# Altium integrated library Analog Devices Data Converters Analog-to-Digital Converters.IntLib: 2404 symbols (part 339 of 346)
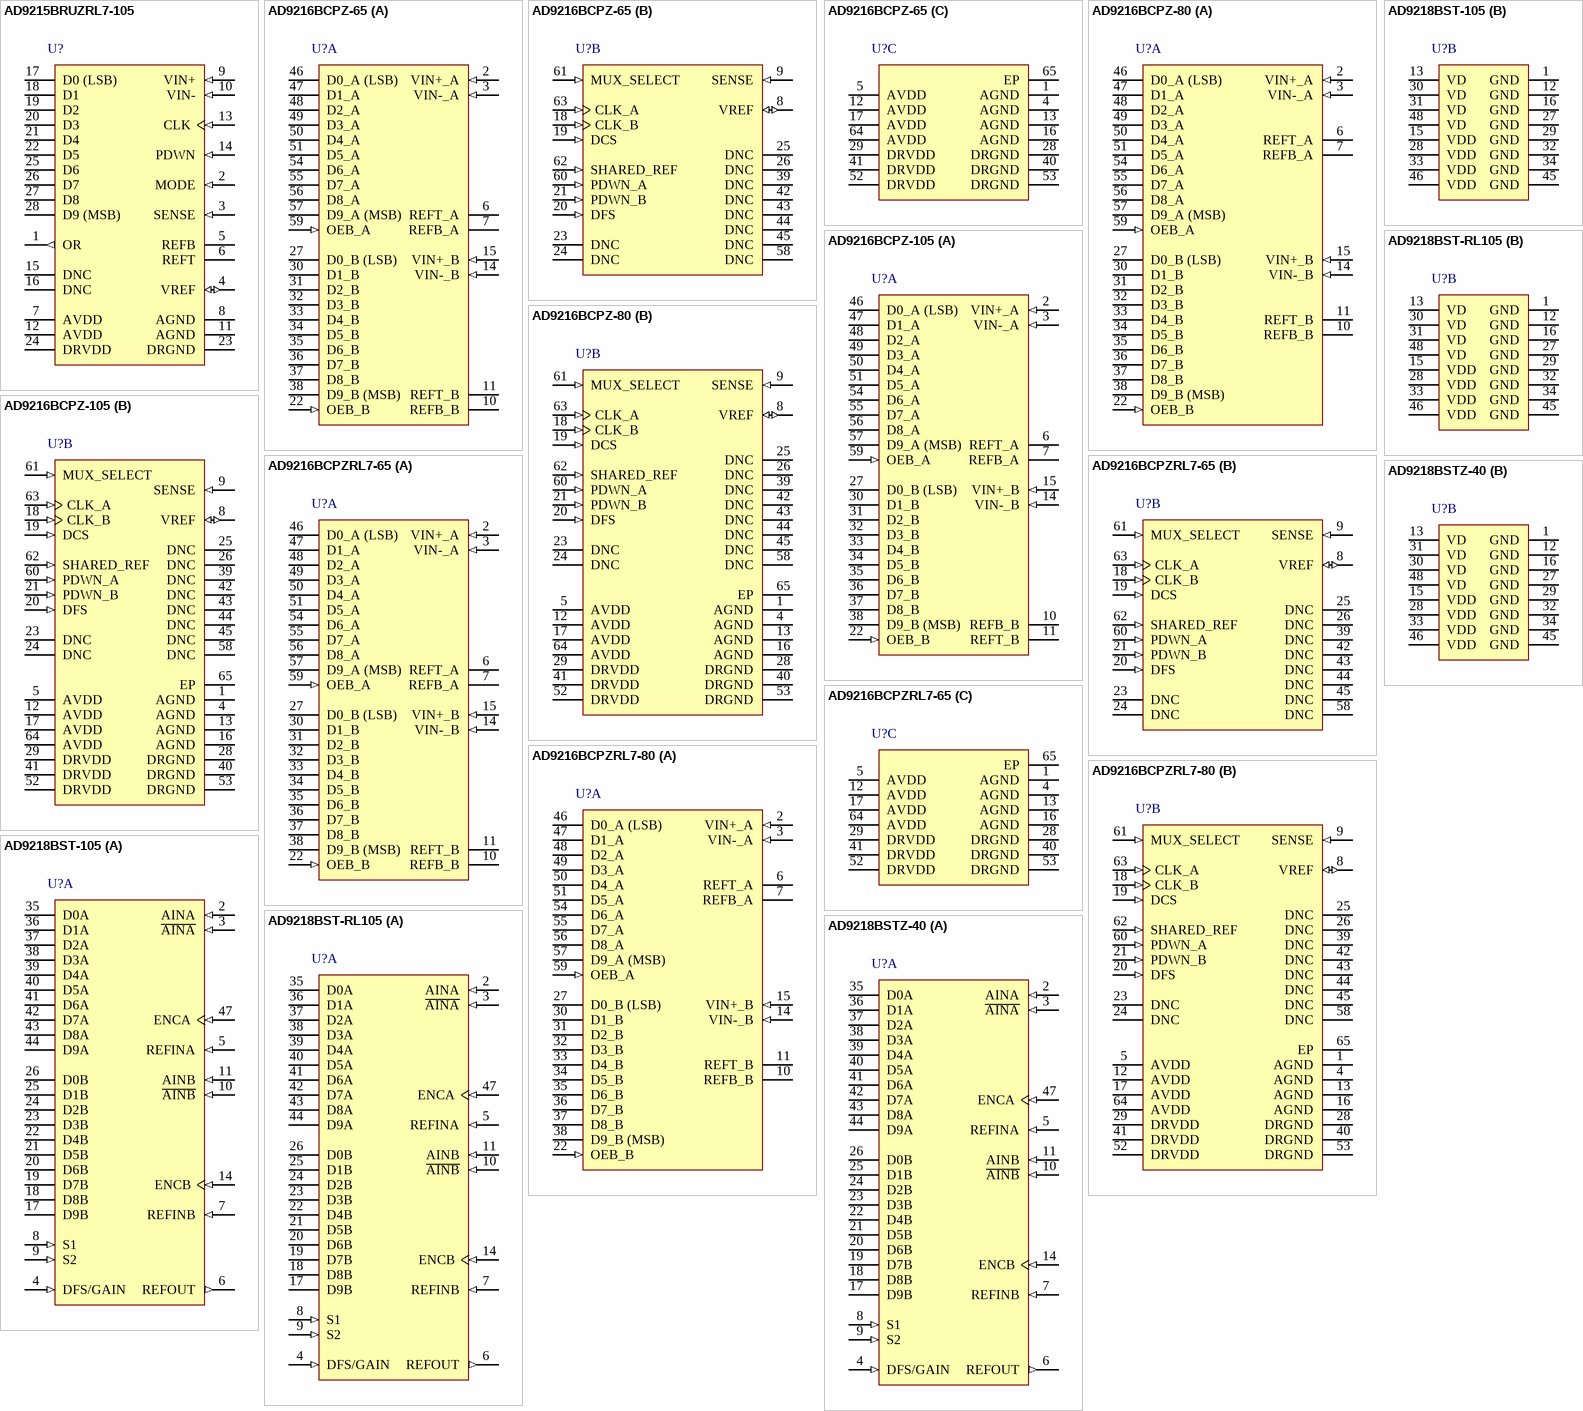
[diagram p336: symbols AD9215BRUZRL7-105 to AD9218BSTZ-40]

## AD9218BSTZ-40
designator U?
Dual 10-Bit Analog-to-Digital Converter with Parallel Interface, 40 / 65 / 80 / 105 Msps 3 V 40MSPS, -40 to +85 degC, ST-48, Pb-Free, Tray; Generic Part Number: AD9218-40; Manufacturer: Analog Devices; PartNumber: AD9218BSTZ-40; Resolution (Bits): 10; Channels: 2; Throughput Rate (SPS): 40M; Interface: Par; DatasheetVersion: Rev.C; PackageVersion: revA; PackageReference: ST-48; PackageDescription: 48-Pin Thin Quad Flat Pack 0.5 mm Pitch; Supplier 1: Digi-Key; Supplier Part Number 1: AD9218BSTZ-40-ND; Supplier 2: Farnell; Supplier Part Number 2: 1438557; Supplier 3: Newark; Supplier Part Number 3: 59K7152; Supplier 4: Mouser; Supplier Part Number 4: 584-AD9218BSTZ-40; RoHS: Y; Packing: Tray; Mounting Technology: Surface Mount; ComponentLink1Description: Manufacturer URL; ComponentLink1URL: http://www.analog.com/en/index.html; ComponentLink2Description: Datasheet; ComponentLink2URL: http://www.analog.com/static/imported-files/data_sheets/AD9218.pdf; ComponentLink3Description: Package Specification; ComponentLink3URL: http://www.analog.com/static/imported-files/packages/PKG_PDF/LQFP%28ST%29/ST_48.pdf; ComponentLink4Description: Product URL; ComponentLink4URL: http://www.analog.com/en/analog-to-digital-converters/ad-converters/ad9218/products/product.html
footprint ST-48_N (Thin QFP, 48-Leads, Body 7x7mm, Pitch 0.5mm, IPC Medium Density)
footprint ST-48_L (Thin QFP, 48-Leads, Body 7x7mm, Pitch 0.5mm, IPC High Density)
footprint ST-48_M (Thin QFP, 48-Leads, Body 7x7mm, Pitch 0.5mm, IPC Low Density)
part A pins: 2 AINA (in) "Analog Input for Channel A.", 3 ~{AINA} (in) "Analog Input for Channel A (Complementary).", 4 DFS/GAIN (in) "Data Format Select and Analog Input Gain Mode. Low = offset binary output available, 1 V p-p supported;  high = twos complement output available, 1 V p-p supported; floating = offset binary output available,   2 V p-p (See Datasheet)", 5 REFINA (in) "Reference Voltage Input for Channel A.", 6 REFOUT (out) "Internal Reference Voltage.", 7 REFINB (in) "Reference Voltage Input for Channel B.", 8 S1 (in) "User Select No. 1. See Table 6.", 9 S2 (in) "User Select No. 2. See Table 6.", 10 ~{AINB} (in) "Analog Input for Channel B (Complementary).", 11 AINB (in) "Analog Input for Channel B.", 14 ENCB (in) "Clock Input for Channel B.", 17 D9B (hiz) "Digital Output for Channel B (D9B = MSB).", 18 D8B (hiz) "Digital Output for Channel B (D9B = MSB).", 19 D7B (hiz) "Digital Output for Channel B (D9B = MSB).", 20 D6B (hiz) "Digital Output for Channel B (D9B = MSB).", 21 D5B (hiz) "Digital Output for Channel B (D9B = MSB).", 22 D4B (hiz) "Digital Output for Channel B (D9B = MSB).", 23 D3B (hiz) "Digital Output for Channel B (D9B = MSB).", 24 D2B (hiz) "Digital Output for Channel B (D9B = MSB).", 25 D1B (hiz) "Digital Output for Channel B (D9B = MSB).", 26 D0B (hiz) "Digital Output for Channel B (D9B = MSB).", 35 D0A (hiz) "Digital Output for Channel A (D9A = MSB).", 36 D1A (hiz) "Digital Output for Channel A (D9A = MSB).", 37 D2A (hiz) "Digital Output for Channel A (D9A = MSB).", 38 D3A (hiz) "Digital Output for Channel A (D9A = MSB).", 39 D4A (hiz) "Digital Output for Channel A (D9A = MSB).", 40 D5A (hiz) "Digital Output for Channel A (D9A = MSB).", 41 D6A (hiz) "Digital Output for Channel A (D9A = MSB).", 42 D7A (hiz) "Digital Output for Channel A (D9A = MSB).", 43 D8A (hiz) "Digital Output for Channel A (D9A = MSB).", 44 D9A (hiz) "Digital Output for Channel A (D9A = MSB).", 47 ENCA (in) "Clock Input for Channel A."
part B pins: 1 GND (power) "Ground.", 12 GND (power) "Ground.", 13 VD (power) "Analog Supply (3 V).", 15 VDD (power) "Digital Supply (2.5 V to 3.6 V).", 16 GND (power) "Ground.", 27 GND (power) "Ground.", 28 VDD (power) "Digital Supply (2.5 V to 3.6 V).", 29 GND (power) "Ground.", 30 VD (power) "Analog Supply (3 V).", 31 VD (power) "Analog Supply (3 V).", 32 GND (power) "Ground.", 33 VDD (power) "Digital Supply (2.5 V to 3.6 V).", 34 GND (power) "Ground.", 45 GND (power) "Ground.", 46 VDD (power) "Digital Supply (2.5 V to 3.6 V).", 48 VD (power) "Analog Supply (3 V)."

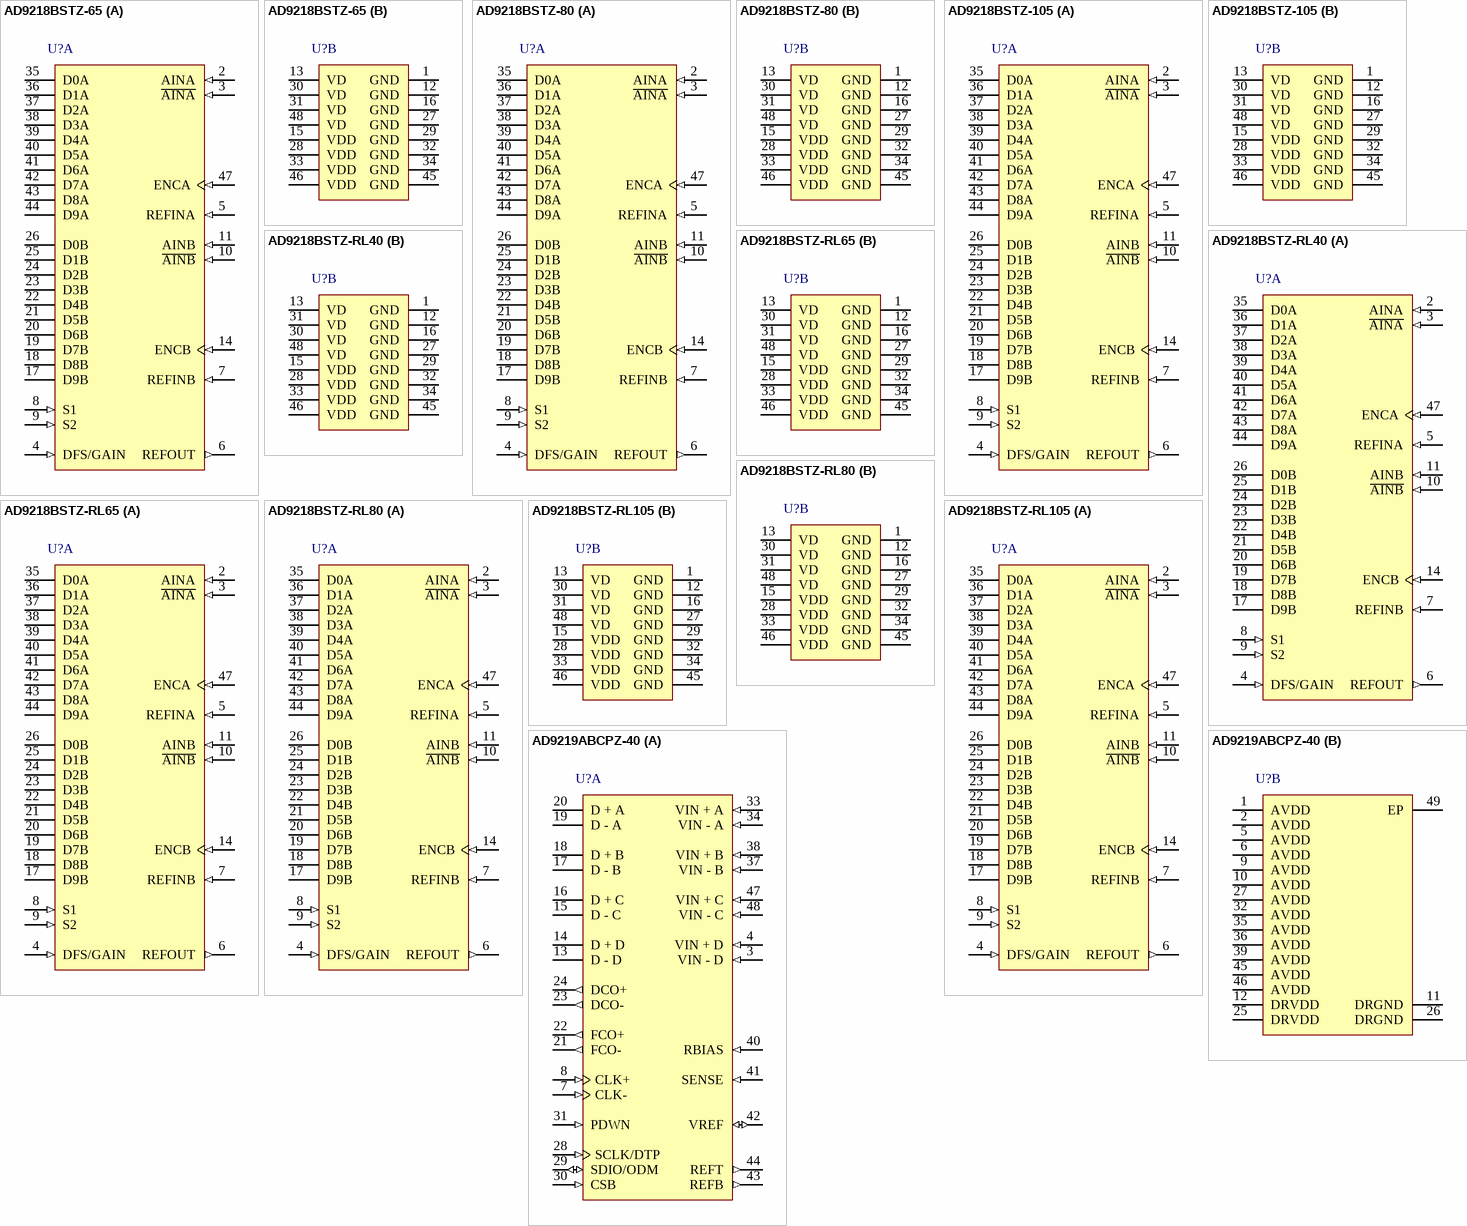
[diagram p102: symbols AD9218BSTZ-65 to AD9219ABCPZ-40]

## AD9218BSTZ-65
designator U?
Dual 10-Bit Analog-to-Digital Converter with Parallel Interface, 40 / 65 / 80 / 105 Msps 3 V 65MSPS, -40 to +85 degC, ST-48, Pb-Free, Tray; Generic Part Number: AD9218-65; Manufacturer: Analog Devices; PartNumber: AD9218BSTZ-65; Resolution (Bits): 10; Channels: 2; Throughput Rate (SPS): 65M; Interface: Par; DatasheetVersion: Rev.C; PackageVersion: revA; PackageReference: ST-48; PackageDescription: 48-Pin Thin Quad Flat Pack 0.5 mm Pitch; Supplier 1: Digi-Key; Supplier Part Number 1: AD9218BSTZ-65-ND; Supplier 2: Newark; Supplier Part Number 2: 59K7153; Supplier 3: Mouser; Supplier Part Number 3: 584-AD9218BSTZ-65; RoHS: Y; Packing: Tray; Mounting Technology: Surface Mount; ComponentLink1Description: Manufacturer URL; ComponentLink1URL: http://www.analog.com/en/index.html; ComponentLink2Description: Datasheet; ComponentLink2URL: http://www.analog.com/static/imported-files/data_sheets/AD9218.pdf; ComponentLink3Description: Package Specification; ComponentLink3URL: http://www.analog.com/static/imported-files/packages/PKG_PDF/LQFP%28ST%29/ST_48.pdf; ComponentLink4Description: Product URL; ComponentLink4URL: http://www.analog.com/en/analog-to-digital-converters/ad-converters/ad9218/products/product.html
footprint ST-48_N (Thin QFP, 48-Leads, Body 7x7mm, Pitch 0.5mm, IPC Medium Density)
footprint ST-48_L (Thin QFP, 48-Leads, Body 7x7mm, Pitch 0.5mm, IPC High Density)
footprint ST-48_M (Thin QFP, 48-Leads, Body 7x7mm, Pitch 0.5mm, IPC Low Density)
part A pins: 2 AINA (in) "Analog Input for Channel A.", 3 ~{AINA} (in) "Analog Input for Channel A (Complementary).", 4 DFS/GAIN (in) "Data Format Select and Analog Input Gain Mode. Low = offset binary output available, 1 V p-p supported;  high = twos complement output available, 1 V p-p supported; floating = offset binary output available,   2 V p-p (See Datasheet)", 5 REFINA (in) "Reference Voltage Input for Channel A.", 6 REFOUT (out) "Internal Reference Voltage.", 7 REFINB (in) "Reference Voltage Input for Channel B.", 8 S1 (in) "User Select No. 1. See Table 6.", 9 S2 (in) "User Select No. 2. See Table 6.", 10 ~{AINB} (in) "Analog Input for Channel B (Complementary).", 11 AINB (in) "Analog Input for Channel B.", 14 ENCB (in) "Clock Input for Channel B.", 17 D9B (hiz) "Digital Output for Channel B (D9B = MSB).", 18 D8B (hiz) "Digital Output for Channel B (D9B = MSB).", 19 D7B (hiz) "Digital Output for Channel B (D9B = MSB).", 20 D6B (hiz) "Digital Output for Channel B (D9B = MSB).", 21 D5B (hiz) "Digital Output for Channel B (D9B = MSB).", 22 D4B (hiz) "Digital Output for Channel B (D9B = MSB).", 23 D3B (hiz) "Digital Output for Channel B (D9B = MSB).", 24 D2B (hiz) "Digital Output for Channel B (D9B = MSB).", 25 D1B (hiz) "Digital Output for Channel B (D9B = MSB).", 26 D0B (hiz) "Digital Output for Channel B (D9B = MSB).", 35 D0A (hiz) "Digital Output for Channel A (D9A = MSB).", 36 D1A (hiz) "Digital Output for Channel A (D9A = MSB).", 37 D2A (hiz) "Digital Output for Channel A (D9A = MSB).", 38 D3A (hiz) "Digital Output for Channel A (D9A = MSB).", 39 D4A (hiz) "Digital Output for Channel A (D9A = MSB).", 40 D5A (hiz) "Digital Output for Channel A (D9A = MSB).", 41 D6A (hiz) "Digital Output for Channel A (D9A = MSB).", 42 D7A (hiz) "Digital Output for Channel A (D9A = MSB).", 43 D8A (hiz) "Digital Output for Channel A (D9A = MSB).", 44 D9A (hiz) "Digital Output for Channel A (D9A = MSB).", 47 ENCA (in) "Clock Input for Channel A."
part B pins: 1 GND (power) "Ground.", 12 GND (power) "Ground.", 13 VD (power) "Analog Supply (3 V).", 15 VDD (power) "Digital Supply (2.5 V to 3.6 V).", 16 GND (power) "Ground.", 27 GND (power) "Ground.", 28 VDD (power) "Digital Supply (2.5 V to 3.6 V).", 29 GND (power) "Ground.", 30 VD (power) "Analog Supply (3 V).", 31 VD (power) "Analog Supply (3 V).", 32 GND (power) "Ground.", 33 VDD (power) "Digital Supply (2.5 V to 3.6 V).", 34 GND (power) "Ground.", 45 GND (power) "Ground.", 46 VDD (power) "Digital Supply (2.5 V to 3.6 V).", 48 VD (power) "Analog Supply (3 V)."

## AD9218BSTZ-80
designator U?
Dual 10-Bit Analog-to-Digital Converter with Parallel Interface, 80Msps 3 V 105MSPS, -40 to +85 degC, ST-48, Pb-Free, Tray; Generic Part Number: AD9218-80; Manufacturer: Analog Devices; PartNumber: AD9218BSTZ-80; Resolution (Bits): 10; Channels: 2; Throughput Rate (SPS): 105M; Interface: Par; DatasheetVersion: Rev.C; PackageVersion: revA; PackageReference: ST-48; PackageDescription: 48-Pin Thin Quad Flat Pack 0.5 mm Pitch; Supplier 1: Digi-Key; Supplier Part Number 1: AD9218BSTZ-80-ND; Supplier 2: Newark; Supplier Part Number 2: 59K7154; Supplier 3: Mouser; Supplier Part Number 3: 584-AD9218BSTZ-80; RoHS: Y; Packing: Tray; Mounting Technology: Surface Mount; ComponentLink1Description: Manufacturer URL; ComponentLink1URL: http://www.analog.com/en/index.html; ComponentLink2Description: Datasheet; ComponentLink2URL: http://www.analog.com/static/imported-files/data_sheets/AD9218.pdf; ComponentLink3Description: Package Specification; ComponentLink3URL: http://www.analog.com/static/imported-files/packages/PKG_PDF/LQFP%28ST%29/ST_48.pdf; ComponentLink4Description: Product URL; ComponentLink4URL: http://www.analog.com/en/analog-to-digital-converters/ad-converters/ad9218/products/product.html
footprint ST-48_N (Thin QFP, 48-Leads, Body 7x7mm, Pitch 0.5mm, IPC Medium Density)
footprint ST-48_L (Thin QFP, 48-Leads, Body 7x7mm, Pitch 0.5mm, IPC High Density)
footprint ST-48_M (Thin QFP, 48-Leads, Body 7x7mm, Pitch 0.5mm, IPC Low Density)
part A pins: 2 AINA (in) "Analog Input for Channel A.", 3 ~{AINA} (in) "Analog Input for Channel A (Complementary).", 4 DFS/GAIN (in) "Data Format Select and Analog Input Gain Mode. Low = offset binary output available, 1 V p-p supported;  high = twos complement output available, 1 V p-p supported; floating = offset binary output available,   2 V p-p (See Datasheet)", 5 REFINA (in) "Reference Voltage Input for Channel A.", 6 REFOUT (out) "Internal Reference Voltage.", 7 REFINB (in) "Reference Voltage Input for Channel B.", 8 S1 (in) "User Select No. 1. See Table 6.", 9 S2 (in) "User Select No. 2. See Table 6.", 10 ~{AINB} (in) "Analog Input for Channel B (Complementary).", 11 AINB (in) "Analog Input for Channel B.", 14 ENCB (in) "Clock Input for Channel B.", 17 D9B (hiz) "Digital Output for Channel B (D9B = MSB).", 18 D8B (hiz) "Digital Output for Channel B (D9B = MSB).", 19 D7B (hiz) "Digital Output for Channel B (D9B = MSB).", 20 D6B (hiz) "Digital Output for Channel B (D9B = MSB).", 21 D5B (hiz) "Digital Output for Channel B (D9B = MSB).", 22 D4B (hiz) "Digital Output for Channel B (D9B = MSB).", 23 D3B (hiz) "Digital Output for Channel B (D9B = MSB).", 24 D2B (hiz) "Digital Output for Channel B (D9B = MSB).", 25 D1B (hiz) "Digital Output for Channel B (D9B = MSB).", 26 D0B (hiz) "Digital Output for Channel B (D9B = MSB).", 35 D0A (hiz) "Digital Output for Channel A (D9A = MSB).", 36 D1A (hiz) "Digital Output for Channel A (D9A = MSB).", 37 D2A (hiz) "Digital Output for Channel A (D9A = MSB).", 38 D3A (hiz) "Digital Output for Channel A (D9A = MSB).", 39 D4A (hiz) "Digital Output for Channel A (D9A = MSB).", 40 D5A (hiz) "Digital Output for Channel A (D9A = MSB).", 41 D6A (hiz) "Digital Output for Channel A (D9A = MSB).", 42 D7A (hiz) "Digital Output for Channel A (D9A = MSB).", 43 D8A (hiz) "Digital Output for Channel A (D9A = MSB).", 44 D9A (hiz) "Digital Output for Channel A (D9A = MSB).", 47 ENCA (in) "Clock Input for Channel A."
part B pins: 1 GND (power) "Ground.", 12 GND (power) "Ground.", 13 VD (power) "Analog Supply (3 V).", 15 VDD (power) "Digital Supply (2.5 V to 3.6 V).", 16 GND (power) "Ground.", 27 GND (power) "Ground.", 28 VDD (power) "Digital Supply (2.5 V to 3.6 V).", 29 GND (power) "Ground.", 30 VD (power) "Analog Supply (3 V).", 31 VD (power) "Analog Supply (3 V).", 32 GND (power) "Ground.", 33 VDD (power) "Digital Supply (2.5 V to 3.6 V).", 34 GND (power) "Ground.", 45 GND (power) "Ground.", 46 VDD (power) "Digital Supply (2.5 V to 3.6 V).", 48 VD (power) "Analog Supply (3 V)."

## AD9218BSTZ-105
designator U?
Dual 10-Bit Analog-to-Digital Converter with Parallel Interface, 3 V, 105MSPS, -40 to +85 degC, ST-48, Pb-Free, Tray; Generic Part Number: AD9218-105; Manufacturer: Analog Devices; PartNumber: AD9218BSTZ-105; Resolution (Bits): 10; Channels: 2; Throughput Rate (SPS): 105M; Interface: Par; DatasheetVersion: Rev.C; PackageVersion: revA; PackageReference: ST-48; PackageDescription: 48-Pin Thin Quad Flat Pack 0.5 mm Pitch; Supplier 1: Digi-Key; Supplier Part Number 1: AD9218BSTZ-105-ND; Supplier 2: Newark; Supplier Part Number 2: 59K7151; Supplier 3: Mouser; Supplier Part Number 3: 584-AD9218BSTZ-105; RoHS: Y; Packing: Tray; Mounting Technology: Surface Mount; ComponentLink1Description: Manufacturer URL; ComponentLink1URL: http://www.analog.com/en/index.html; ComponentLink2Description: Datasheet; ComponentLink2URL: http://www.analog.com/static/imported-files/data_sheets/AD9218.pdf; ComponentLink3Description: Package Specification; ComponentLink3URL: http://www.analog.com/static/imported-files/packages/PKG_PDF/LQFP%28ST%29/ST_48.pdf; ComponentLink4Description: Product URL; ComponentLink4URL: http://www.analog.com/en/analog-to-digital-converters/ad-converters/ad9218/products/product.html
footprint ST-48_N (Thin QFP, 48-Leads, Body 7x7mm, Pitch 0.5mm, IPC Medium Density)
footprint ST-48_L (Thin QFP, 48-Leads, Body 7x7mm, Pitch 0.5mm, IPC High Density)
footprint ST-48_M (Thin QFP, 48-Leads, Body 7x7mm, Pitch 0.5mm, IPC Low Density)
part A pins: 2 AINA (in) "Analog Input for Channel A.", 3 ~{AINA} (in) "Analog Input for Channel A (Complementary).", 4 DFS/GAIN (in) "Data Format Select and Analog Input Gain Mode. Low = offset binary output available, 1 V p-p supported;  high = twos complement output available, 1 V p-p supported; floating = offset binary output available,   2 V p-p (See Datasheet)", 5 REFINA (in) "Reference Voltage Input for Channel A.", 6 REFOUT (out) "Internal Reference Voltage.", 7 REFINB (in) "Reference Voltage Input for Channel B.", 8 S1 (in) "User Select No. 1. See Table 6.", 9 S2 (in) "User Select No. 2. See Table 6.", 10 ~{AINB} (in) "Analog Input for Channel B (Complementary).", 11 AINB (in) "Analog Input for Channel B.", 14 ENCB (in) "Clock Input for Channel B.", 17 D9B (hiz) "Digital Output for Channel B (D9B = MSB).", 18 D8B (hiz) "Digital Output for Channel B (D9B = MSB).", 19 D7B (hiz) "Digital Output for Channel B (D9B = MSB).", 20 D6B (hiz) "Digital Output for Channel B (D9B = MSB).", 21 D5B (hiz) "Digital Output for Channel B (D9B = MSB).", 22 D4B (hiz) "Digital Output for Channel B (D9B = MSB).", 23 D3B (hiz) "Digital Output for Channel B (D9B = MSB).", 24 D2B (hiz) "Digital Output for Channel B (D9B = MSB).", 25 D1B (hiz) "Digital Output for Channel B (D9B = MSB).", 26 D0B (hiz) "Digital Output for Channel B (D9B = MSB).", 35 D0A (hiz) "Digital Output for Channel A (D9A = MSB).", 36 D1A (hiz) "Digital Output for Channel A (D9A = MSB).", 37 D2A (hiz) "Digital Output for Channel A (D9A = MSB).", 38 D3A (hiz) "Digital Output for Channel A (D9A = MSB).", 39 D4A (hiz) "Digital Output for Channel A (D9A = MSB).", 40 D5A (hiz) "Digital Output for Channel A (D9A = MSB).", 41 D6A (hiz) "Digital Output for Channel A (D9A = MSB).", 42 D7A (hiz) "Digital Output for Channel A (D9A = MSB).", 43 D8A (hiz) "Digital Output for Channel A (D9A = MSB).", 44 D9A (hiz) "Digital Output for Channel A (D9A = MSB).", 47 ENCA (in) "Clock Input for Channel A."
part B pins: 1 GND (power) "Ground.", 12 GND (power) "Ground.", 13 VD (power) "Analog Supply (3 V).", 15 VDD (power) "Digital Supply (2.5 V to 3.6 V).", 16 GND (power) "Ground.", 27 GND (power) "Ground.", 28 VDD (power) "Digital Supply (2.5 V to 3.6 V).", 29 GND (power) "Ground.", 30 VD (power) "Analog Supply (3 V).", 31 VD (power) "Analog Supply (3 V).", 32 GND (power) "Ground.", 33 VDD (power) "Digital Supply (2.5 V to 3.6 V).", 34 GND (power) "Ground.", 45 GND (power) "Ground.", 46 VDD (power) "Digital Supply (2.5 V to 3.6 V).", 48 VD (power) "Analog Supply (3 V)."

## AD9218BSTZ-RL40
designator U?
Dual 10-Bit Analog-to-Digital Converter with Parallel Interface, 40 / 65 / 80 / 105 Msps 3 V 40MSPS, -40 to +85 degC, ST-48, Pb-Free, Reel; Generic Part Number: AD9218-40; Manufacturer: Analog Devices; PartNumber: AD9218BSTZ-RL40; Resolution (Bits): 10; Channels: 2; Throughput Rate (SPS): 40M; Interface: Par; DatasheetVersion: Rev.C; PackageVersion: revA; PackageReference: ST-48; PackageDescription: 48-Pin Thin Quad Flat Pack 0.5 mm Pitch; Supplier 1: Digi-Key; Supplier Part Number 1: AD9218BSTZ-RL40TR-ND; Supplier 2: Digi-Key; Supplier Part Number 2: AD9218BSTZ-RL40CT-ND; Supplier 3: Digi-Key; Supplier Part Number 3: AD9218BSTZ-RL40DKR-ND; Supplier 4: Newark; Supplier Part Number 4: 59K7148; Supplier 5: Mouser; Supplier Part Number 5: 584-AD9218BSTZ-R40; RoHS: Y; Packing: Reel; Mounting Technology: Surface Mount; ComponentLink1Description: Manufacturer URL; ComponentLink1URL: http://www.analog.com/en/index.html; ComponentLink2Description: Datasheet; ComponentLink2URL: http://www.analog.com/static/imported-files/data_sheets/AD9218.pdf; ComponentLink3Description: Package Specification; ComponentLink3URL: http://www.analog.com/static/imported-files/packages/PKG_PDF/LQFP%28ST%29/ST_48.pdf; ComponentLink4Description: Product URL; ComponentLink4URL: http://www.analog.com/en/analog-to-digital-converters/ad-converters/ad9218/products/product.html
footprint ST-48_N (Thin QFP, 48-Leads, Body 7x7mm, Pitch 0.5mm, IPC Medium Density)
footprint ST-48_L (Thin QFP, 48-Leads, Body 7x7mm, Pitch 0.5mm, IPC High Density)
footprint ST-48_M (Thin QFP, 48-Leads, Body 7x7mm, Pitch 0.5mm, IPC Low Density)
part A pins: 2 AINA (in) "Analog Input for Channel A.", 3 ~{AINA} (in) "Analog Input for Channel A (Complementary).", 4 DFS/GAIN (in) "Data Format Select and Analog Input Gain Mode. Low = offset binary output available, 1 V p-p supported;  high = twos complement output available, 1 V p-p supported; floating = offset binary output available,   2 V p-p (See Datasheet)", 5 REFINA (in) "Reference Voltage Input for Channel A.", 6 REFOUT (out) "Internal Reference Voltage.", 7 REFINB (in) "Reference Voltage Input for Channel B.", 8 S1 (in) "User Select No. 1. See Table 6.", 9 S2 (in) "User Select No. 2. See Table 6.", 10 ~{AINB} (in) "Analog Input for Channel B (Complementary).", 11 AINB (in) "Analog Input for Channel B.", 14 ENCB (in) "Clock Input for Channel B.", 17 D9B (hiz) "Digital Output for Channel B (D9B = MSB).", 18 D8B (hiz) "Digital Output for Channel B (D9B = MSB).", 19 D7B (hiz) "Digital Output for Channel B (D9B = MSB).", 20 D6B (hiz) "Digital Output for Channel B (D9B = MSB).", 21 D5B (hiz) "Digital Output for Channel B (D9B = MSB).", 22 D4B (hiz) "Digital Output for Channel B (D9B = MSB).", 23 D3B (hiz) "Digital Output for Channel B (D9B = MSB).", 24 D2B (hiz) "Digital Output for Channel B (D9B = MSB).", 25 D1B (hiz) "Digital Output for Channel B (D9B = MSB).", 26 D0B (hiz) "Digital Output for Channel B (D9B = MSB).", 35 D0A (hiz) "Digital Output for Channel A (D9A = MSB).", 36 D1A (hiz) "Digital Output for Channel A (D9A = MSB).", 37 D2A (hiz) "Digital Output for Channel A (D9A = MSB).", 38 D3A (hiz) "Digital Output for Channel A (D9A = MSB).", 39 D4A (hiz) "Digital Output for Channel A (D9A = MSB).", 40 D5A (hiz) "Digital Output for Channel A (D9A = MSB).", 41 D6A (hiz) "Digital Output for Channel A (D9A = MSB).", 42 D7A (hiz) "Digital Output for Channel A (D9A = MSB).", 43 D8A (hiz) "Digital Output for Channel A (D9A = MSB).", 44 D9A (hiz) "Digital Output for Channel A (D9A = MSB).", 47 ENCA (in) "Clock Input for Channel A."
part B pins: 1 GND (power) "Ground.", 12 GND (power) "Ground.", 13 VD (power) "Analog Supply (3 V).", 15 VDD (power) "Digital Supply (2.5 V to 3.6 V).", 16 GND (power) "Ground.", 27 GND (power) "Ground.", 28 VDD (power) "Digital Supply (2.5 V to 3.6 V).", 29 GND (power) "Ground.", 30 VD (power) "Analog Supply (3 V).", 31 VD (power) "Analog Supply (3 V).", 32 GND (power) "Ground.", 33 VDD (power) "Digital Supply (2.5 V to 3.6 V).", 34 GND (power) "Ground.", 45 GND (power) "Ground.", 46 VDD (power) "Digital Supply (2.5 V to 3.6 V).", 48 VD (power) "Analog Supply (3 V)."

## AD9218BSTZ-RL65
designator U?
Dual 10-Bit Analog-to-Digital Converter with Parallel Interface, 40 / 65 / 80 / 105 Msps 3 V 65MSPS, -40 to +85 degC, ST-48, Pb-Free, Reel; Generic Part Number: AD9218-65; Manufacturer: Analog Devices; PartNumber: AD9218BSTZ-RL65; Resolution (Bits): 10; Channels: 2; Throughput Rate (SPS): 65M; Interface: Par; DatasheetVersion: Rev.C; PackageVersion: revA; PackageReference: ST-48; PackageDescription: 48-Pin Thin Quad Flat Pack 0.5 mm Pitch; Supplier 1: Digi-Key; Supplier Part Number 1: AD9218BSTZ-RL65TR-ND; Supplier 2: Digi-Key; Supplier Part Number 2: AD9218BSTZ-RL65CT-ND; Supplier 3: Digi-Key; Supplier Part Number 3: AD9218BSTZRL65DKR-ND; Supplier 4: Newark; Supplier Part Number 4: 59K7149; Supplier 5: Mouser; Supplier Part Number 5: 584-AD9218BSTZ-R65; RoHS: Y; Packing: Reel; Mounting Technology: Surface Mount; ComponentLink1Description: Manufacturer URL; ComponentLink1URL: http://www.analog.com/en/index.html; ComponentLink2Description: Datasheet; ComponentLink2URL: http://www.analog.com/static/imported-files/data_sheets/AD9218.pdf; ComponentLink3Description: Package Specification; ComponentLink3URL: http://www.analog.com/static/imported-files/packages/PKG_PDF/LQFP%28ST%29/ST_48.pdf; ComponentLink4Description: Product URL; ComponentLink4URL: http://www.analog.com/en/analog-to-digital-converters/ad-converters/ad9218/products/product.html
footprint ST-48_N (Thin QFP, 48-Leads, Body 7x7mm, Pitch 0.5mm, IPC Medium Density)
footprint ST-48_L (Thin QFP, 48-Leads, Body 7x7mm, Pitch 0.5mm, IPC High Density)
footprint ST-48_M (Thin QFP, 48-Leads, Body 7x7mm, Pitch 0.5mm, IPC Low Density)
part A pins: 2 AINA (in) "Analog Input for Channel A.", 3 ~{AINA} (in) "Analog Input for Channel A (Complementary).", 4 DFS/GAIN (in) "Data Format Select and Analog Input Gain Mode. Low = offset binary output available, 1 V p-p supported;  high = twos complement output available, 1 V p-p supported; floating = offset binary output available,   2 V p-p (See Datasheet)", 5 REFINA (in) "Reference Voltage Input for Channel A.", 6 REFOUT (out) "Internal Reference Voltage.", 7 REFINB (in) "Reference Voltage Input for Channel B.", 8 S1 (in) "User Select No. 1. See Table 6.", 9 S2 (in) "User Select No. 2. See Table 6.", 10 ~{AINB} (in) "Analog Input for Channel B (Complementary).", 11 AINB (in) "Analog Input for Channel B.", 14 ENCB (in) "Clock Input for Channel B.", 17 D9B (hiz) "Digital Output for Channel B (D9B = MSB).", 18 D8B (hiz) "Digital Output for Channel B (D9B = MSB).", 19 D7B (hiz) "Digital Output for Channel B (D9B = MSB).", 20 D6B (hiz) "Digital Output for Channel B (D9B = MSB).", 21 D5B (hiz) "Digital Output for Channel B (D9B = MSB).", 22 D4B (hiz) "Digital Output for Channel B (D9B = MSB).", 23 D3B (hiz) "Digital Output for Channel B (D9B = MSB).", 24 D2B (hiz) "Digital Output for Channel B (D9B = MSB).", 25 D1B (hiz) "Digital Output for Channel B (D9B = MSB).", 26 D0B (hiz) "Digital Output for Channel B (D9B = MSB).", 35 D0A (hiz) "Digital Output for Channel A (D9A = MSB).", 36 D1A (hiz) "Digital Output for Channel A (D9A = MSB).", 37 D2A (hiz) "Digital Output for Channel A (D9A = MSB).", 38 D3A (hiz) "Digital Output for Channel A (D9A = MSB).", 39 D4A (hiz) "Digital Output for Channel A (D9A = MSB).", 40 D5A (hiz) "Digital Output for Channel A (D9A = MSB).", 41 D6A (hiz) "Digital Output for Channel A (D9A = MSB).", 42 D7A (hiz) "Digital Output for Channel A (D9A = MSB).", 43 D8A (hiz) "Digital Output for Channel A (D9A = MSB).", 44 D9A (hiz) "Digital Output for Channel A (D9A = MSB).", 47 ENCA (in) "Clock Input for Channel A."
part B pins: 1 GND (power) "Ground.", 12 GND (power) "Ground.", 13 VD (power) "Analog Supply (3 V).", 15 VDD (power) "Digital Supply (2.5 V to 3.6 V).", 16 GND (power) "Ground.", 27 GND (power) "Ground.", 28 VDD (power) "Digital Supply (2.5 V to 3.6 V).", 29 GND (power) "Ground.", 30 VD (power) "Analog Supply (3 V).", 31 VD (power) "Analog Supply (3 V).", 32 GND (power) "Ground.", 33 VDD (power) "Digital Supply (2.5 V to 3.6 V).", 34 GND (power) "Ground.", 45 GND (power) "Ground.", 46 VDD (power) "Digital Supply (2.5 V to 3.6 V).", 48 VD (power) "Analog Supply (3 V)."

## AD9218BSTZ-RL80
designator U?
Dual 10-Bit Analog-to-Digital Converter with Parallel Interface, 80Msps 3 V 105MSPS, -40 to +85 degC, ST-48, Pb-Free, Reel; Generic Part Number: AD9218-80; Manufacturer: Analog Devices; PartNumber: AD9218BSTZ-RL80; Resolution (Bits): 10; Channels: 2; Throughput Rate (SPS): 105M; Interface: Par; DatasheetVersion: Rev.C; PackageVersion: revA; PackageReference: ST-48; PackageDescription: 48-Pin Thin Quad Flat Pack 0.5 mm Pitch; Supplier 1: Digi-Key; Supplier Part Number 1: AD9218BSTZ-RL80-ND; Supplier 2: Mouser; Supplier Part Number 2: 584-AD9218BSTZ-R80; RoHS: Y; Packing: Reel; Mounting Technology: Surface Mount; ComponentLink1Description: Manufacturer URL; ComponentLink1URL: http://www.analog.com/en/index.html; ComponentLink2Description: Datasheet; ComponentLink2URL: http://www.analog.com/static/imported-files/data_sheets/AD9218.pdf; ComponentLink3Description: Package Specification; ComponentLink3URL: http://www.analog.com/static/imported-files/packages/PKG_PDF/LQFP%28ST%29/ST_48.pdf; ComponentLink4Description: Product URL; ComponentLink4URL: http://www.analog.com/en/analog-to-digital-converters/ad-converters/ad9218/products/product.html
footprint ST-48_N (Thin QFP, 48-Leads, Body 7x7mm, Pitch 0.5mm, IPC Medium Density)
footprint ST-48_L (Thin QFP, 48-Leads, Body 7x7mm, Pitch 0.5mm, IPC High Density)
footprint ST-48_M (Thin QFP, 48-Leads, Body 7x7mm, Pitch 0.5mm, IPC Low Density)
part A pins: 2 AINA (in) "Analog Input for Channel A.", 3 ~{AINA} (in) "Analog Input for Channel A (Complementary).", 4 DFS/GAIN (in) "Data Format Select and Analog Input Gain Mode. Low = offset binary output available, 1 V p-p supported;  high = twos complement output available, 1 V p-p supported; floating = offset binary output available,   2 V p-p (See Datasheet)", 5 REFINA (in) "Reference Voltage Input for Channel A.", 6 REFOUT (out) "Internal Reference Voltage.", 7 REFINB (in) "Reference Voltage Input for Channel B.", 8 S1 (in) "User Select No. 1. See Table 6.", 9 S2 (in) "User Select No. 2. See Table 6.", 10 ~{AINB} (in) "Analog Input for Channel B (Complementary).", 11 AINB (in) "Analog Input for Channel B.", 14 ENCB (in) "Clock Input for Channel B.", 17 D9B (hiz) "Digital Output for Channel B (D9B = MSB).", 18 D8B (hiz) "Digital Output for Channel B (D9B = MSB).", 19 D7B (hiz) "Digital Output for Channel B (D9B = MSB).", 20 D6B (hiz) "Digital Output for Channel B (D9B = MSB).", 21 D5B (hiz) "Digital Output for Channel B (D9B = MSB).", 22 D4B (hiz) "Digital Output for Channel B (D9B = MSB).", 23 D3B (hiz) "Digital Output for Channel B (D9B = MSB).", 24 D2B (hiz) "Digital Output for Channel B (D9B = MSB).", 25 D1B (hiz) "Digital Output for Channel B (D9B = MSB).", 26 D0B (hiz) "Digital Output for Channel B (D9B = MSB).", 35 D0A (hiz) "Digital Output for Channel A (D9A = MSB).", 36 D1A (hiz) "Digital Output for Channel A (D9A = MSB).", 37 D2A (hiz) "Digital Output for Channel A (D9A = MSB).", 38 D3A (hiz) "Digital Output for Channel A (D9A = MSB).", 39 D4A (hiz) "Digital Output for Channel A (D9A = MSB).", 40 D5A (hiz) "Digital Output for Channel A (D9A = MSB).", 41 D6A (hiz) "Digital Output for Channel A (D9A = MSB).", 42 D7A (hiz) "Digital Output for Channel A (D9A = MSB).", 43 D8A (hiz) "Digital Output for Channel A (D9A = MSB).", 44 D9A (hiz) "Digital Output for Channel A (D9A = MSB).", 47 ENCA (in) "Clock Input for Channel A."
part B pins: 1 GND (power) "Ground.", 12 GND (power) "Ground.", 13 VD (power) "Analog Supply (3 V).", 15 VDD (power) "Digital Supply (2.5 V to 3.6 V).", 16 GND (power) "Ground.", 27 GND (power) "Ground.", 28 VDD (power) "Digital Supply (2.5 V to 3.6 V).", 29 GND (power) "Ground.", 30 VD (power) "Analog Supply (3 V).", 31 VD (power) "Analog Supply (3 V).", 32 GND (power) "Ground.", 33 VDD (power) "Digital Supply (2.5 V to 3.6 V).", 34 GND (power) "Ground.", 45 GND (power) "Ground.", 46 VDD (power) "Digital Supply (2.5 V to 3.6 V).", 48 VD (power) "Analog Supply (3 V)."

## AD9218BSTZ-RL105
designator U?
Dual 10-Bit Analog-to-Digital Converter with Parallel Interface, 3 V, 105MSPS, -40 to +85 degC, ST-48, Pb-Free, Reel; Generic Part Number: AD9218-105; Manufacturer: Analog Devices; PartNumber: AD9218BSTZ-RL105; Resolution (Bits): 10; Channels: 2; Throughput Rate (SPS): 105M; Interface: Par; DatasheetVersion: Rev.C; PackageVersion: revA; PackageReference: ST-48; PackageDescription: 48-Pin Thin Quad Flat Pack 0.5 mm Pitch; Supplier 1: Digi-Key; Supplier Part Number 1: AD9218BSTZ-RL105-ND; Supplier 2: Newark; Supplier Part Number 2: 59K7147; Supplier 3: Mouser; Supplier Part Number 3: 584-AD9218BSTZ-R105; RoHS: Y; Packing: Reel; Mounting Technology: Surface Mount; ComponentLink1Description: Manufacturer URL; ComponentLink1URL: http://www.analog.com/en/index.html; ComponentLink2Description: Datasheet; ComponentLink2URL: http://www.analog.com/static/imported-files/data_sheets/AD9218.pdf; ComponentLink3Description: Package Specification; ComponentLink3URL: http://www.analog.com/static/imported-files/packages/PKG_PDF/LQFP%28ST%29/ST_48.pdf; ComponentLink4Description: Product URL; ComponentLink4URL: http://www.analog.com/en/analog-to-digital-converters/ad-converters/ad9218/products/product.html
footprint ST-48_N (Thin QFP, 48-Leads, Body 7x7mm, Pitch 0.5mm, IPC Medium Density)
footprint ST-48_L (Thin QFP, 48-Leads, Body 7x7mm, Pitch 0.5mm, IPC High Density)
footprint ST-48_M (Thin QFP, 48-Leads, Body 7x7mm, Pitch 0.5mm, IPC Low Density)
part A pins: 2 AINA (in) "Analog Input for Channel A.", 3 ~{AINA} (in) "Analog Input for Channel A (Complementary).", 4 DFS/GAIN (in) "Data Format Select and Analog Input Gain Mode. Low = offset binary output available, 1 V p-p supported;  high = twos complement output available, 1 V p-p supported; floating = offset binary output available,   2 V p-p (See Datasheet)", 5 REFINA (in) "Reference Voltage Input for Channel A.", 6 REFOUT (out) "Internal Reference Voltage.", 7 REFINB (in) "Reference Voltage Input for Channel B.", 8 S1 (in) "User Select No. 1. See Table 6.", 9 S2 (in) "User Select No. 2. See Table 6.", 10 ~{AINB} (in) "Analog Input for Channel B (Complementary).", 11 AINB (in) "Analog Input for Channel B.", 14 ENCB (in) "Clock Input for Channel B.", 17 D9B (hiz) "Digital Output for Channel B (D9B = MSB).", 18 D8B (hiz) "Digital Output for Channel B (D9B = MSB).", 19 D7B (hiz) "Digital Output for Channel B (D9B = MSB).", 20 D6B (hiz) "Digital Output for Channel B (D9B = MSB).", 21 D5B (hiz) "Digital Output for Channel B (D9B = MSB).", 22 D4B (hiz) "Digital Output for Channel B (D9B = MSB).", 23 D3B (hiz) "Digital Output for Channel B (D9B = MSB).", 24 D2B (hiz) "Digital Output for Channel B (D9B = MSB).", 25 D1B (hiz) "Digital Output for Channel B (D9B = MSB).", 26 D0B (hiz) "Digital Output for Channel B (D9B = MSB).", 35 D0A (hiz) "Digital Output for Channel A (D9A = MSB).", 36 D1A (hiz) "Digital Output for Channel A (D9A = MSB).", 37 D2A (hiz) "Digital Output for Channel A (D9A = MSB).", 38 D3A (hiz) "Digital Output for Channel A (D9A = MSB).", 39 D4A (hiz) "Digital Output for Channel A (D9A = MSB).", 40 D5A (hiz) "Digital Output for Channel A (D9A = MSB).", 41 D6A (hiz) "Digital Output for Channel A (D9A = MSB).", 42 D7A (hiz) "Digital Output for Channel A (D9A = MSB).", 43 D8A (hiz) "Digital Output for Channel A (D9A = MSB).", 44 D9A (hiz) "Digital Output for Channel A (D9A = MSB).", 47 ENCA (in) "Clock Input for Channel A."
part B pins: 1 GND (power) "Ground.", 12 GND (power) "Ground.", 13 VD (power) "Analog Supply (3 V).", 15 VDD (power) "Digital Supply (2.5 V to 3.6 V).", 16 GND (power) "Ground.", 27 GND (power) "Ground.", 28 VDD (power) "Digital Supply (2.5 V to 3.6 V).", 29 GND (power) "Ground.", 30 VD (power) "Analog Supply (3 V).", 31 VD (power) "Analog Supply (3 V).", 32 GND (power) "Ground.", 33 VDD (power) "Digital Supply (2.5 V to 3.6 V).", 34 GND (power) "Ground.", 45 GND (power) "Ground.", 46 VDD (power) "Digital Supply (2.5 V to 3.6 V).", 48 VD (power) "Analog Supply (3 V)."

## AD9219ABCPZ-40
designator U?
Quad 10-Bit Analog-to-Digital Converter with LVDS, Serial Interface, 1.8 V, 40MSPS, -40 to +85 degC, CP-48-8, Pb-Free, Tray; Generic Part Number: AD9219-40; Manufacturer: Analog Devices; PartNumber: AD9219ABCPZ-40; Resolution (Bits): 10; Channels: 4; Throughput Rate (SPS): 40M; DatasheetVersion: Rev.E; PackageVersion: 02-23-2010-C; PackageReference: CP-48-8; PackageDescription: 48-Lead Lead Frame Chip Scale Package [LFCSP_VQ] 7 x 7 mm Body, Very Thin Quad; Supplier 1: Digi-Key; Supplier Part Number 1: AD9219ABCPZ-40-ND; Supplier 2: Mouser; Supplier Part Number 2: 584-AD9219ABCPZ-40; Interface: LVDS, Ser; RoHS: Y; Packing: Tray; Mounting Technology: Surface Mount; Code_JEDEC: MO-220-VKKD-2; ComponentLink1Description: Manufacturer URL; ComponentLink1URL: http://www.analog.com/en/index.html; ComponentLink2Description: Datasheet; ComponentLink2URL: http://www.analog.com/static/imported-files/data_sheets/AD9219.pdf; ComponentLink3Description: Package Specification; ComponentLink3URL: http://www.analog.com/static/imported-files/packages/PKG_PDF/LFCSP(CP)/CP_48_8.pdf; ComponentLink4Description: Product URL; ComponentLink4URL: http://www.analog.com/en/analog-to-digital-converters/ad-converters/ad9219/products/product.html
footprint CP-48-8_N (QFN, 48-Leads, Body 7x7mm, Pitch 0.5mm, Thermal Pad 5.5x5.5mm, IPC Medium Density)
footprint CP-48-8_L (QFN, 48-Leads, Body 7x7mm, Pitch 0.5mm, Thermal Pad 5.5x5.5mm, IPC High Density)
footprint CP-48-8_M (QFN, 48-Leads, Body 7x7mm, Pitch 0.5mm, Thermal Pad 5.5x5.5mm, IPC Low Density)
part A pins: 3 VIN - D (in) "ADC D Analog Input Complement", 4 VIN + D (in) "ADC D Analog Input True", 7 CLK- (in) "Input Clock Complement", 8 CLK+ (in) "Input Clock True", 13 D - D (hiz) "ADC D Digital Output Complement", 14 D + D (hiz) "ADC D Digital Output True", 15 D - C (hiz) "ADC C Digital Output Complement", 16 D + C (hiz) "ADC C Digital Output True", 17 D - B (hiz) "ADC B Digital Output Complement", 18 D + B (hiz) "ADC B Digital Output True", 19 D - A (hiz) "ADC A Digital Output Complement", 20 D + A (hiz) "ADC A Digital Output True", 21 FCO- (out) "Frame Clock Output Complement", 22 FCO+ (out) "Frame Clock Output True", 23 DCO- (out) "Data Clock Output Complement", 24 DCO+ (out) "Data Clock Output True", 28 SCLK/DTP (in) "Serial Clock/Digital Test Pattern", 29 SDIO/ODM (io) "Serial Data IO/Output Driver Mode", 30 CSB (in) "Chip Select Bar", 31 PDWN (in) "Power-Down", 33 VIN + A (in) "ADC A Analog Input True", 34 VIN - A (in) "ADC A Analog Input Complement", 37 VIN - B (in) "ADC B Analog Input Complement", 38 VIN + B (in) "ADC B Analog Input True", 40 RBIAS (in) "External resistor sets the internal ADC core bias current", 41 SENSE (in) "Reference Mode Selection", 42 VREF (io) "Voltage Reference Input/Output", 43 REFB (out) "Differential Reference (Negative)", 44 REFT (out) "Differential Reference (Positive)", 47 VIN + C (in) "ADC C Analog Input True", 48 VIN - C (in) "ADC C Analog Input Complement"
part B pins: 1 AVDD (power) "1.8 V Analog Supply", 2 AVDD (power) "1.8 V Analog Supply", 5 AVDD (power) "1.8 V Analog Supply", 6 AVDD (power) "1.8 V Analog Supply", 9 AVDD (power) "1.8 V Analog Supply", 10 AVDD (power) "1.8 V Analog Supply", 11 DRGND (power) "Digital Output Driver Ground", 12 DRVDD (power) "1.8 V Digital Output Driver Supply", 25 DRVDD (power) "1.8 V Digital Output Driver Supply", 26 DRGND (power) "Digital Output Driver Ground", 27 AVDD (power) "1.8 V Analog Supply", 32 AVDD (power) "1.8 V Analog Supply", 35 AVDD (power) "1.8 V Analog Supply", 36 AVDD (power) "1.8 V Analog Supply", 39 AVDD (power) "1.8 V Analog Supply", 45 AVDD (power) "1.8 V Analog Supply", 46 AVDD (power) "1.8 V Analog Supply", 49 EP (power) "Analog Ground (Exposed Paddle)"

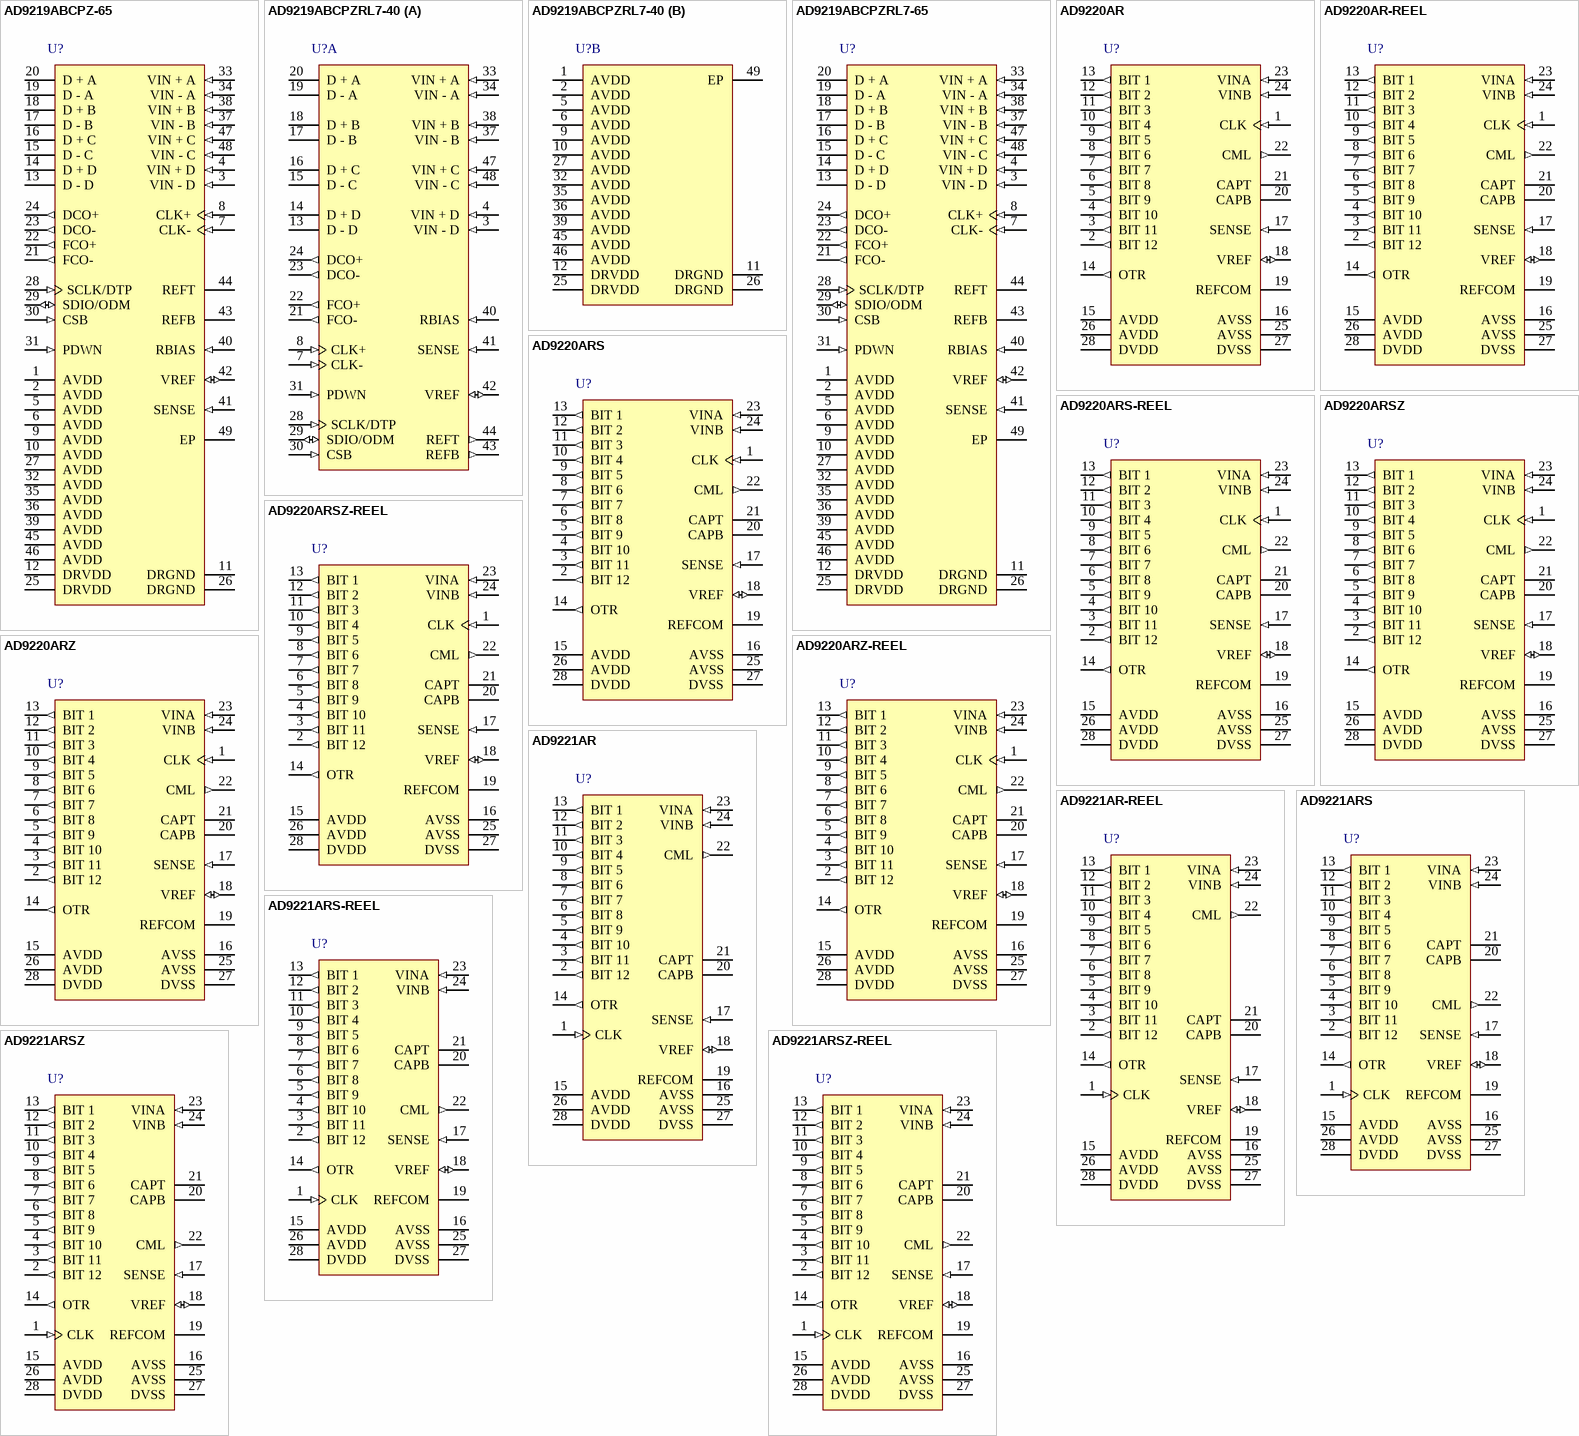
[diagram p103: symbols AD9219ABCPZ-65 to AD9221ARSZ-REEL]

## AD9219ABCPZ-65
designator U?
Quad 10-Bit Analog-to-Digital Converter with LVDS, Serial Interface, 1.8 V, 65MSPS, -40 to +85 degC, CP-48-8, Pb-Free, Tray; Generic Part Number: AD9219-65; Manufacturer: Analog Devices; PartNumber: AD9219ABCPZ-65; Resolution (Bits): 10; Channels: 4; Throughput Rate (SPS): 65M; DatasheetVersion: Rev.E; PackageVersion: 02-23-2010-C; PackageReference: CP-48-8; PackageDescription: 48-Lead Lead Frame Chip Scale Package [LFCSP_VQ] 7 x 7 mm Body, Very Thin Quad; Supplier 1: Digi-Key; Supplier Part Number 1: AD9219ABCPZ-65-ND; Supplier 2: Newark; Supplier Part Number 2: 70R1856; Supplier 3: Mouser; Supplier Part Number 3: 584-AD9219ABCPZ-65; Interface: LVDS, Ser; RoHS: Y; Packing: Tray; Mounting Technology: Surface Mount; Code_JEDEC: MO-220-VKKD-2; ComponentLink1Description: Manufacturer URL; ComponentLink1URL: http://www.analog.com/en/index.html; ComponentLink2Description: Datasheet; ComponentLink2URL: http://www.analog.com/static/imported-files/data_sheets/AD9219.pdf; ComponentLink3Description: Package Specification; ComponentLink3URL: http://www.analog.com/static/imported-files/packages/PKG_PDF/LFCSP(CP)/CP_48_8.pdf; ComponentLink4Description: Product URL; ComponentLink4URL: http://www.analog.com/en/analog-to-digital-converters/ad-converters/ad9219/products/product.html
footprint CP-48-8_N (QFN, 48-Leads, Body 7x7mm, Pitch 0.5mm, Thermal Pad 5.5x5.5mm, IPC Medium Density)
footprint CP-48-8_L (QFN, 48-Leads, Body 7x7mm, Pitch 0.5mm, Thermal Pad 5.5x5.5mm, IPC High Density)
footprint CP-48-8_M (QFN, 48-Leads, Body 7x7mm, Pitch 0.5mm, Thermal Pad 5.5x5.5mm, IPC Low Density)
pins: 1 AVDD (power) "1.8 V Analog Supply", 2 AVDD (power) "1.8 V Analog Supply", 3 VIN - D (in) "ADC D Analog Input Complement", 4 VIN + D (in) "ADC D Analog Input True", 5 AVDD (power) "1.8 V Analog Supply", 6 AVDD (power) "1.8 V Analog Supply", 7 CLK- (in) "Input Clock Complement", 8 CLK+ (in) "Input Clock True", 9 AVDD (power) "1.8 V Analog Supply", 10 AVDD (power) "1.8 V Analog Supply", 11 DRGND (power) "Digital Output Driver Ground", 12 DRVDD (power) "1.8 V Digital Output Driver Supply", 13 D - D (hiz) "ADC D Digital Output Complement", 14 D + D (hiz) "ADC D Digital Output True", 15 D - C (hiz) "ADC C Digital Output Complement", 16 D + C (hiz) "ADC C Digital Output True", 17 D - B (hiz) "ADC B Digital Output Complement", 18 D + B (hiz) "ADC B Digital Output True", 19 D - A (hiz) "ADC A Digital Output Complement", 20 D + A (hiz) "ADC A Digital Output True", 21 FCO- (out) "Frame Clock Output Complement", 22 FCO+ (out) "Frame Clock Output True", 23 DCO- (out) "Data Clock Output Complement", 24 DCO+ (out) "Data Clock Output True", 25 DRVDD (power) "1.8 V Digital Output Driver Supply", 26 DRGND (power) "Digital Output Driver Ground", 27 AVDD (power) "1.8 V Analog Supply", 28 SCLK/DTP (in) "Serial Clock/Digital Test Pattern", 29 SDIO/ODM (io) "Serial Data IO/Output Driver Mode", 30 CSB (in) "Chip Select Bar", 31 PDWN (in) "Power-Down", 32 AVDD (power) "1.8 V Analog Supply", 33 VIN + A (in) "ADC A Analog Input True", 34 VIN - A (in) "ADC A Analog Input Complement", 35 AVDD (power) "1.8 V Analog Supply", 36 AVDD (power) "1.8 V Analog Supply", 37 VIN - B (in) "ADC B Analog Input Complement", 38 VIN + B (in) "ADC B Analog Input True", 39 AVDD (power) "1.8 V Analog Supply", 40 RBIAS (in) "External resistor sets the internal ADC core bias current", 41 SENSE (in) "Reference Mode Selection", 42 VREF (io) "Voltage Reference Input/Output", 43 REFB "Differential Reference (Negative)", 44 REFT "Differential Reference (Positive)", 45 AVDD (power) "1.8 V Analog Supply", 46 AVDD (power) "1.8 V Analog Supply", 47 VIN + C (in) "ADC C Analog Input True", 48 VIN - C (in) "ADC C Analog Input Complement", 49 EP (power) "Exposed Paddle"

## AD9219ABCPZRL7-40
designator U?
Quad 10-Bit Analog-to-Digital Converter with LVDS, Serial Interface, 1.8 V, 40MSPS, -40 to +85 degC, CP-48-8, Pb-Free, Reel; Generic Part Number: AD9219-40; Manufacturer: Analog Devices; PartNumber: AD9219ABCPZRL7-40; Resolution (Bits): 10; Channels: 4; Throughput Rate (SPS): 40M; DatasheetVersion: Rev.E; PackageVersion: 02-23-2010-C; PackageReference: CP-48-8; PackageDescription: 48-Lead Lead Frame Chip Scale Package [LFCSP_VQ] 7 x 7 mm Body, Very Thin Quad; Supplier 1: Digi-Key; Supplier Part Number 1: AD9219ABCPZRL7-40-ND; Supplier 2: Mouser; Supplier Part Number 2: 584-AD9219ABCPZR7-40; Interface: LVDS, Ser; RoHS: Y; Packing: Reel; Mounting Technology: Surface Mount; Code_JEDEC: MO-220-VKKD-2; ComponentLink1Description: Manufacturer URL; ComponentLink1URL: http://www.analog.com/en/index.html; ComponentLink2Description: Datasheet; ComponentLink2URL: http://www.analog.com/static/imported-files/data_sheets/AD9219.pdf; ComponentLink3Description: Package Specification; ComponentLink3URL: http://www.analog.com/static/imported-files/packages/PKG_PDF/LFCSP(CP)/CP_48_8.pdf; ComponentLink4Description: Product URL; ComponentLink4URL: http://www.analog.com/en/analog-to-digital-converters/ad-converters/ad9219/products/product.html
footprint CP-48-8_N (QFN, 48-Leads, Body 7x7mm, Pitch 0.5mm, Thermal Pad 5.5x5.5mm, IPC Medium Density)
footprint CP-48-8_L (QFN, 48-Leads, Body 7x7mm, Pitch 0.5mm, Thermal Pad 5.5x5.5mm, IPC High Density)
footprint CP-48-8_M (QFN, 48-Leads, Body 7x7mm, Pitch 0.5mm, Thermal Pad 5.5x5.5mm, IPC Low Density)
part A pins: 3 VIN - D (in) "ADC D Analog Input Complement", 4 VIN + D (in) "ADC D Analog Input True", 7 CLK- (in) "Input Clock Complement", 8 CLK+ (in) "Input Clock True", 13 D - D (hiz) "ADC D Digital Output Complement", 14 D + D (hiz) "ADC D Digital Output True", 15 D - C (hiz) "ADC C Digital Output Complement", 16 D + C (hiz) "ADC C Digital Output True", 17 D - B (hiz) "ADC B Digital Output Complement", 18 D + B (hiz) "ADC B Digital Output True", 19 D - A (hiz) "ADC A Digital Output Complement", 20 D + A (hiz) "ADC A Digital Output True", 21 FCO- (out) "Frame Clock Output Complement", 22 FCO+ (out) "Frame Clock Output True", 23 DCO- (out) "Data Clock Output Complement", 24 DCO+ (out) "Data Clock Output True", 28 SCLK/DTP (in) "Serial Clock/Digital Test Pattern", 29 SDIO/ODM (io) "Serial Data IO/Output Driver Mode", 30 CSB (in) "Chip Select Bar", 31 PDWN (in) "Power-Down", 33 VIN + A (in) "ADC A Analog Input True", 34 VIN - A (in) "ADC A Analog Input Complement", 37 VIN - B (in) "ADC B Analog Input Complement", 38 VIN + B (in) "ADC B Analog Input True", 40 RBIAS (in) "External resistor sets the internal ADC core bias current", 41 SENSE (in) "Reference Mode Selection", 42 VREF (io) "Voltage Reference Input/Output", 43 REFB (out) "Differential Reference (Negative)", 44 REFT (out) "Differential Reference (Positive)", 47 VIN + C (in) "ADC C Analog Input True", 48 VIN - C (in) "ADC C Analog Input Complement"
part B pins: 1 AVDD (power) "1.8 V Analog Supply", 2 AVDD (power) "1.8 V Analog Supply", 5 AVDD (power) "1.8 V Analog Supply", 6 AVDD (power) "1.8 V Analog Supply", 9 AVDD (power) "1.8 V Analog Supply", 10 AVDD (power) "1.8 V Analog Supply", 11 DRGND (power) "Digital Output Driver Ground", 12 DRVDD (power) "1.8 V Digital Output Driver Supply", 25 DRVDD (power) "1.8 V Digital Output Driver Supply", 26 DRGND (power) "Digital Output Driver Ground", 27 AVDD (power) "1.8 V Analog Supply", 32 AVDD (power) "1.8 V Analog Supply", 35 AVDD (power) "1.8 V Analog Supply", 36 AVDD (power) "1.8 V Analog Supply", 39 AVDD (power) "1.8 V Analog Supply", 45 AVDD (power) "1.8 V Analog Supply", 46 AVDD (power) "1.8 V Analog Supply", 49 EP (power) "Analog Ground (Exposed Paddle)"

## AD9219ABCPZRL7-65
designator U?
Quad 10-Bit Analog-to-Digital Converter with LVDS, Serial Interface, 1.8 V, 65MSPS, -40 to +85 degC, CP-48-8, Pb-Free, Reel; Generic Part Number: AD9219-65; Manufacturer: Analog Devices; PartNumber: AD9219ABCPZRL7-65; Resolution (Bits): 10; Channels: 4; Throughput Rate (SPS): 65M; DatasheetVersion: Rev.E; PackageVersion: 02-23-2010-C; PackageReference: CP-48-8; PackageDescription: 48-Lead Lead Frame Chip Scale Package [LFCSP_VQ] 7 x 7 mm Body, Very Thin Quad; Supplier 1: Digi-Key; Supplier Part Number 1: AD9219ABCPZRL7-65-ND; Supplier 2: Newark; Supplier Part Number 2: 70R1858; Supplier 3: Mouser; Supplier Part Number 3: 584-AD9219ABCPZR7-65; Interface: LVDS, Ser; RoHS: Y; Packing: Reel; Mounting Technology: Surface Mount; Code_JEDEC: MO-220-VKKD-2; ComponentLink1Description: Manufacturer URL; ComponentLink1URL: http://www.analog.com/en/index.html; ComponentLink2Description: Datasheet; ComponentLink2URL: http://www.analog.com/static/imported-files/data_sheets/AD9219.pdf; ComponentLink3Description: Package Specification; ComponentLink3URL: http://www.analog.com/static/imported-files/packages/PKG_PDF/LFCSP(CP)/CP_48_8.pdf; ComponentLink4Description: Product URL; ComponentLink4URL: http://www.analog.com/en/analog-to-digital-converters/ad-converters/ad9219/products/product.html
footprint CP-48-8_N (QFN, 48-Leads, Body 7x7mm, Pitch 0.5mm, Thermal Pad 5.5x5.5mm, IPC Medium Density)
footprint CP-48-8_L (QFN, 48-Leads, Body 7x7mm, Pitch 0.5mm, Thermal Pad 5.5x5.5mm, IPC High Density)
footprint CP-48-8_M (QFN, 48-Leads, Body 7x7mm, Pitch 0.5mm, Thermal Pad 5.5x5.5mm, IPC Low Density)
pins: 1 AVDD (power) "1.8 V Analog Supply", 2 AVDD (power) "1.8 V Analog Supply", 3 VIN - D (in) "ADC D Analog Input Complement", 4 VIN + D (in) "ADC D Analog Input True", 5 AVDD (power) "1.8 V Analog Supply", 6 AVDD (power) "1.8 V Analog Supply", 7 CLK- (in) "Input Clock Complement", 8 CLK+ (in) "Input Clock True", 9 AVDD (power) "1.8 V Analog Supply", 10 AVDD (power) "1.8 V Analog Supply", 11 DRGND (power) "Digital Output Driver Ground", 12 DRVDD (power) "1.8 V Digital Output Driver Supply", 13 D - D (hiz) "ADC D Digital Output Complement", 14 D + D (hiz) "ADC D Digital Output True", 15 D - C (hiz) "ADC C Digital Output Complement", 16 D + C (hiz) "ADC C Digital Output True", 17 D - B (hiz) "ADC B Digital Output Complement", 18 D + B (hiz) "ADC B Digital Output True", 19 D - A (hiz) "ADC A Digital Output Complement", 20 D + A (hiz) "ADC A Digital Output True", 21 FCO- (out) "Frame Clock Output Complement", 22 FCO+ (out) "Frame Clock Output True", 23 DCO- (out) "Data Clock Output Complement", 24 DCO+ (out) "Data Clock Output True", 25 DRVDD (power) "1.8 V Digital Output Driver Supply", 26 DRGND (power) "Digital Output Driver Ground", 27 AVDD (power) "1.8 V Analog Supply", 28 SCLK/DTP (in) "Serial Clock/Digital Test Pattern", 29 SDIO/ODM (io) "Serial Data IO/Output Driver Mode", 30 CSB (in) "Chip Select Bar", 31 PDWN (in) "Power-Down", 32 AVDD (power) "1.8 V Analog Supply", 33 VIN + A (in) "ADC A Analog Input True", 34 VIN - A (in) "ADC A Analog Input Complement", 35 AVDD (power) "1.8 V Analog Supply", 36 AVDD (power) "1.8 V Analog Supply", 37 VIN - B (in) "ADC B Analog Input Complement", 38 VIN + B (in) "ADC B Analog Input True", 39 AVDD (power) "1.8 V Analog Supply", 40 RBIAS (in) "External resistor sets the internal ADC core bias current", 41 SENSE (in) "Reference Mode Selection", 42 VREF (io) "Voltage Reference Input/Output", 43 REFB "Differential Reference (Negative)", 44 REFT "Differential Reference (Positive)", 45 AVDD (power) "1.8 V Analog Supply", 46 AVDD (power) "1.8 V Analog Supply", 47 VIN + C (in) "ADC C Analog Input True", 48 VIN - C (in) "ADC C Analog Input Complement", 49 EP (power) "Exposed Paddle"